# EAGLE library part AD7991 (library BrownSpaceEngineering)
4-channel, 12-bit, I2C ADC
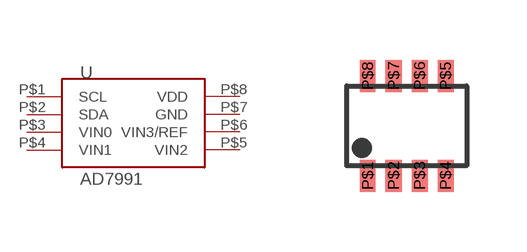
[diagram p10: symbol with the pads of SOT-23-8; footprint SOT-23-8]

Designator prefix U

## AD7991-0  [SOT-23-8]
P$1  SCL
P$2  SDA
P$3  VIN0
P$4  VIN1
P$5  VIN2
P$6  VIN3/REF
P$7  GND
P$8  VDD

## AD7991-1  [SOT-23-8]
Pads as for SOT-23-8

## Footprint SOT-23-8 (pad centres in mm)
smd 0.4 x 0.8: P$1 -1.016,-1.27; P$2 -0.366,-1.27; P$3 0.284,-1.27; P$4 0.934,-1.27; P$5 0.934,1.23; P$6 0.284,1.23; P$7 -0.366,1.23; P$8 -1.016,1.23